# Altium schematic symbol library REF.SchLib: 1 symbol
Pins are listed as number, name and electrical type; pins without a type are passive.

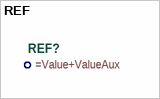
[diagram p0: symbol REF]

## REF
designator REF?
=Description